# EAGLE library part HR911130C (library blinkinlabs)
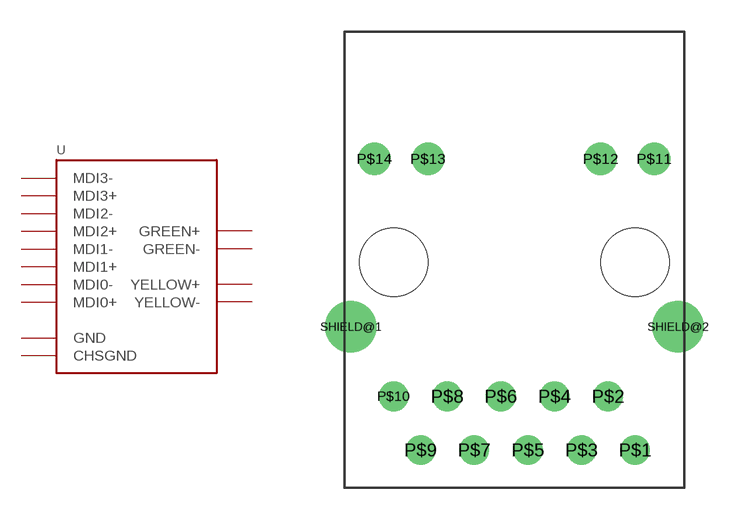
[diagram p28: symbol with the pads of RJ45_HR911130C; footprint RJ45_HR911130C]

Designator prefix -

## HR911130C  [RJ45_HR911130C]
P$1  GND
P$2  MDI0+
P$3  MDI0-
P$4  MDI1+
P$5  MDI2+
P$6  MDI2-
P$7  MDI1-
P$8  MDI3+
P$9  MDI3-
P$10  CHSGND
P$11  GREEN+
P$12  GREEN-
P$13  YELLOW-
P$14  YELLOW+

## Footprint RJ45_HR911130C (pad centres in mm)
drill 0.89: P$1 5.72,-8.89; P$2 4.44,-6.35; P$3 3.18,-8.89; P$4 1.9,-6.35; P$5 0.64,-8.89; P$6 -0.64,-6.35; P$7 -1.9,-8.89; P$8 -3.18,-6.35; P$9 -4.44,-8.89; P$10 -5.72,-6.35
drill 1.02: P$11 6.625,4.9; P$12 4.085,4.9; P$13 -4.085,4.9; P$14 -6.625,4.9
drill 1.63: SHIELD@1 -7.745,-3.05; SHIELD@2 7.745,-3.05
hole 3.25 at -5.715,0
hole 3.25 at 5.715,0